# Altium footprint library USB1100-XX-X_REVC.PcbLib: 1 footprints
Each footprint in its own frame and in the unit in brackets; x right, y up, seen from the top. Pads: shape width x height; smd on the part's side, far side on the other; paste and mask are expansions set on the pad; w line width, h text height; cw(c..) or ccw(c..) is an arc to the next point about the centre after c.
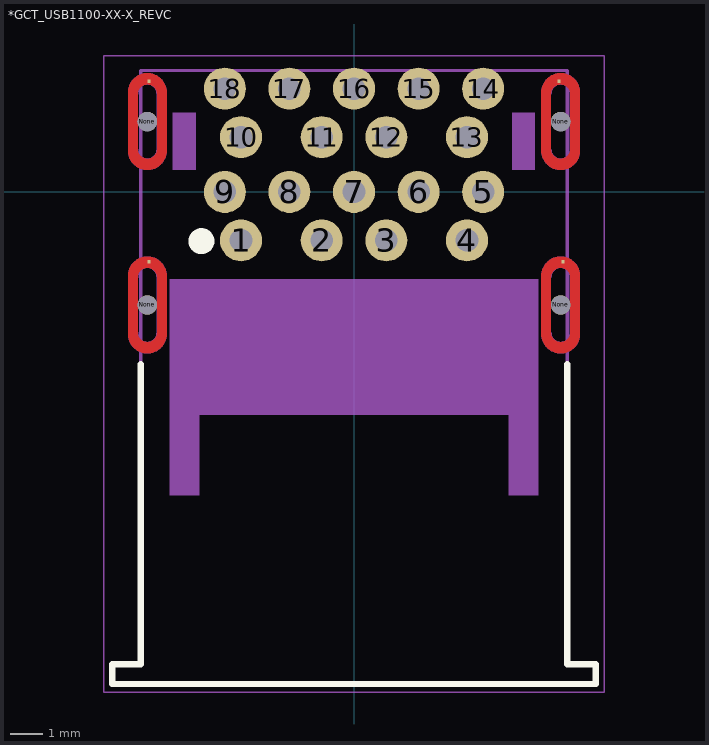
[diagram p0: the footprint, top view; thin cyan lines are the x and y axes]

## *GCT_USB1100-XX-X_REVC [mm]
pads (26):
  round 1.3 hole 0.7: 1(-3.5,-1.5) 2(-1,-1.5) 3(1,-1.5) 4(3.5,-1.5) 5(4,0) 6(2,0) 7(0,0) 8(-2,0) 9(-4,0) 10(-3.5,1.7) 11(-1,1.7) 12(1,1.7) 13(3.5,1.7) 14(4,3.2) 15(2,3.2) 16(0,3.2) 17(-2,3.2) 18(-4,3.2)
  rect 0.1x0.1 smd: 19(6.477,-2.159) 20(6.35,3.429) 21(-6.35,-2.159) 22(-6.35,3.429)
  round 0.6 hole 0.6 unplated: None(-6.4,-3.5) None(-6.4,2.18) None(6.4,-3.5) None(6.4,2.18)
Top Layer:
  region: -6.1,-3.5 -6.1,-4.35 -6.1,-4.358 -6.101,-4.374 -6.102,-4.389 -6.105,-4.405 -6.108,-4.42 -6.112,-4.435 -6.117,-4.45 -6.123,-4.465 -6.129,-4.479 -6.136,-4.493 -6.144,-4.507 -6.153,-4.52 -6.162,-4.533 -6.172,-4.545 -6.182,-4.557 -6.193,-4.568 -6.205,-4.578 -6.217,-4.588 -6.23,-4.597 -6.243,-4.606 -6.257,-4.614 -6.271,-4.621 -6.285,-4.627 -6.3,-4.633 -6.315,-4.638 -6.33,-4.642 -6.345,-4.645 -6.361,-4.648 -6.376,-4.649 -6.392,-4.65 -6.4,-4.65 -6.408,-4.65 -6.424,-4.649 -6.439,-4.648 -6.455,-4.645 -6.47,-4.642 -6.485,-4.638 -6.5,-4.633 -6.515,-4.627 -6.529,-4.621 -6.543,-4.614 -6.557,-4.606 -6.57,-4.597 -6.583,-4.588 -6.595,-4.578 -6.607,-4.568 -6.618,-4.557 -6.628,-4.545 -6.638,-4.533 -6.647,-4.52 -6.656,-4.507 -6.664,-4.493 -6.671,-4.479 -6.677,-4.465 -6.683,-4.45 -6.688,-4.435 -6.692,-4.42 -6.695,-4.405 -6.698,-4.389 -6.699,-4.374 -6.7,-4.358 -6.7,-4.35 -6.7,-3.5 -7,-3.5 -7,-4.3 -7,-4.4 -7,-4.416 -6.998,-4.447 -6.995,-4.478 -6.99,-4.509 -6.984,-4.54 -6.975,-4.57 -6.966,-4.6 -6.955,-4.63 -6.942,-4.658 -6.927,-4.686 -6.912,-4.714 -6.895,-4.74 -6.876,-4.765 -6.856,-4.79 -6.835,-4.813 -6.813,-4.835 -6.79,-4.856 -6.765,-4.876 -6.74,-4.895 -6.714,-4.912 -6.686,-4.927 -6.658,-4.942 -6.63,-4.955 -6.6,-4.966 -6.57,-4.975 -6.54,-4.984 -6.509,-4.99 -6.478,-4.995 -6.447,-4.998 -6.416,-5 -6.4,-5 -6.384,-5 -6.353,-4.998 -6.322,-4.995 -6.291,-4.99 -6.26,-4.984 -6.23,-4.975 -6.2,-4.966 -6.17,-4.955 -6.142,-4.942 -6.114,-4.927 -6.086,-4.912 -6.06,-4.895 -6.035,-4.876 -6.01,-4.856 -5.987,-4.835 -5.965,-4.813 -5.944,-4.79 -5.924,-4.765 -5.905,-4.74 -5.888,-4.714 -5.873,-4.686 -5.858,-4.658 -5.845,-4.63 -5.834,-4.6 -5.825,-4.57 -5.816,-4.54 -5.81,-4.509 -5.805,-4.478 -5.802,-4.447 -5.8,-4.416 -5.8,-4.4 -5.8,-3.5
  region: -6.7,-3.5 -6.7,-2.65 -6.7,-2.642 -6.699,-2.626 -6.698,-2.611 -6.695,-2.595 -6.692,-2.58 -6.688,-2.565 -6.683,-2.55 -6.677,-2.535 -6.671,-2.521 -6.664,-2.507 -6.656,-2.493 -6.647,-2.48 -6.638,-2.467 -6.628,-2.455 -6.618,-2.443 -6.607,-2.432 -6.595,-2.422 -6.583,-2.412 -6.57,-2.403 -6.557,-2.394 -6.543,-2.386 -6.529,-2.379 -6.515,-2.373 -6.5,-2.367 -6.485,-2.362 -6.47,-2.358 -6.455,-2.355 -6.439,-2.352 -6.424,-2.351 -6.408,-2.35 -6.4,-2.35 -6.392,-2.35 -6.376,-2.351 -6.361,-2.352 -6.345,-2.355 -6.33,-2.358 -6.315,-2.362 -6.3,-2.367 -6.285,-2.373 -6.271,-2.379 -6.257,-2.386 -6.243,-2.394 -6.23,-2.403 -6.217,-2.412 -6.205,-2.422 -6.193,-2.432 -6.182,-2.443 -6.172,-2.455 -6.162,-2.467 -6.153,-2.48 -6.144,-2.493 -6.136,-2.507 -6.129,-2.521 -6.123,-2.535 -6.117,-2.55 -6.112,-2.565 -6.108,-2.58 -6.105,-2.595 -6.102,-2.611 -6.101,-2.626 -6.1,-2.642 -6.1,-2.65 -6.1,-3.5 -5.8,-3.5 -5.8,-2.7 -5.8,-2.6 -5.8,-2.584 -5.802,-2.553 -5.805,-2.522 -5.81,-2.491 -5.816,-2.46 -5.825,-2.43 -5.834,-2.4 -5.845,-2.37 -5.858,-2.342 -5.873,-2.314 -5.888,-2.286 -5.905,-2.26 -5.924,-2.235 -5.944,-2.21 -5.965,-2.187 -5.987,-2.165 -6.01,-2.144 -6.035,-2.124 -6.06,-2.105 -6.086,-2.088 -6.114,-2.073 -6.142,-2.058 -6.17,-2.045 -6.2,-2.034 -6.23,-2.025 -6.26,-2.016 -6.291,-2.01 -6.322,-2.005 -6.353,-2.002 -6.384,-2 -6.4,-2 -6.416,-2 -6.447,-2.002 -6.478,-2.005 -6.509,-2.01 -6.54,-2.016 -6.57,-2.025 -6.6,-2.034 -6.63,-2.045 -6.658,-2.058 -6.686,-2.073 -6.714,-2.088 -6.74,-2.105 -6.765,-2.124 -6.79,-2.144 -6.813,-2.165 -6.835,-2.187 -6.856,-2.21 -6.876,-2.235 -6.895,-2.26 -6.912,-2.286 -6.927,-2.314 -6.942,-2.342 -6.955,-2.37 -6.966,-2.4 -6.975,-2.43 -6.984,-2.46 -6.99,-2.491 -6.995,-2.522 -6.998,-2.553 -7,-2.584 -7,-2.6 -7,-3.5
  region: 6.7,-3.5 6.7,-4.35 6.7,-4.358 6.699,-4.374 6.698,-4.389 6.695,-4.405 6.692,-4.42 6.688,-4.435 6.683,-4.45 6.677,-4.465 6.671,-4.479 6.664,-4.493 6.656,-4.507 6.647,-4.52 6.638,-4.533 6.628,-4.545 6.618,-4.557 6.607,-4.568 6.595,-4.578 6.583,-4.588 6.57,-4.597 6.557,-4.606 6.543,-4.614 6.529,-4.621 6.515,-4.627 6.5,-4.633 6.485,-4.638 6.47,-4.642 6.455,-4.645 6.439,-4.648 6.424,-4.649 6.408,-4.65 6.4,-4.65 6.392,-4.65 6.376,-4.649 6.361,-4.648 6.345,-4.645 6.33,-4.642 6.315,-4.638 6.3,-4.633 6.285,-4.627 6.271,-4.621 6.257,-4.614 6.243,-4.606 6.23,-4.597 6.217,-4.588 6.205,-4.578 6.193,-4.568 6.182,-4.557 6.172,-4.545 6.162,-4.533 6.153,-4.52 6.144,-4.507 6.136,-4.493 6.129,-4.479 6.123,-4.465 6.117,-4.45 6.112,-4.435 6.108,-4.42 6.105,-4.405 6.102,-4.389 6.101,-4.374 6.1,-4.358 6.1,-4.35 6.1,-3.5 5.8,-3.5 5.8,-4.3 5.8,-4.4 5.8,-4.416 5.802,-4.447 5.805,-4.478 5.81,-4.509 5.816,-4.54 5.825,-4.57 5.834,-4.6 5.845,-4.63 5.858,-4.658 5.873,-4.686 5.888,-4.714 5.905,-4.74 5.924,-4.765 5.944,-4.79 5.965,-4.813 5.987,-4.835 6.01,-4.856 6.035,-4.876 6.06,-4.895 6.086,-4.912 6.114,-4.927 6.142,-4.942 6.17,-4.955 6.2,-4.966 6.23,-4.975 6.26,-4.984 6.291,-4.99 6.322,-4.995 6.353,-4.998 6.384,-5 6.4,-5 6.416,-5 6.447,-4.998 6.478,-4.995 6.509,-4.99 6.54,-4.984 6.57,-4.975 6.6,-4.966 6.63,-4.955 6.658,-4.942 6.686,-4.927 6.714,-4.912 6.74,-4.895 6.765,-4.876 6.79,-4.856 6.813,-4.835 6.835,-4.813 6.856,-4.79 6.876,-4.765 6.895,-4.74 6.912,-4.714 6.927,-4.686 6.942,-4.658 6.955,-4.63 6.966,-4.6 6.975,-4.57 6.984,-4.54 6.99,-4.509 6.995,-4.478 6.998,-4.447 7,-4.416 7,-4.4 7,-3.5
  region: 6.1,-3.5 6.1,-2.65 6.1,-2.642 6.101,-2.626 6.102,-2.611 6.105,-2.595 6.108,-2.58 6.112,-2.565 6.117,-2.55 6.123,-2.535 6.129,-2.521 6.136,-2.507 6.144,-2.493 6.153,-2.48 6.162,-2.467 6.172,-2.455 6.182,-2.443 6.193,-2.432 6.205,-2.422 6.217,-2.412 6.23,-2.403 6.243,-2.394 6.257,-2.386 6.271,-2.379 6.285,-2.373 6.3,-2.367 6.315,-2.362 6.33,-2.358 6.345,-2.355 6.361,-2.352 6.376,-2.351 6.392,-2.35 6.4,-2.35 6.408,-2.35 6.424,-2.351 6.439,-2.352 6.455,-2.355 6.47,-2.358 6.485,-2.362 6.5,-2.367 6.515,-2.373 6.529,-2.379 6.543,-2.386 6.557,-2.394 6.57,-2.403 6.583,-2.412 6.595,-2.422 6.607,-2.432 6.618,-2.443 6.628,-2.455 6.638,-2.467 6.647,-2.48 6.656,-2.493 6.664,-2.507 6.671,-2.521 6.677,-2.535 6.683,-2.55 6.688,-2.565 6.692,-2.58 6.695,-2.595 6.698,-2.611 6.699,-2.626 6.7,-2.642 6.7,-2.65 6.7,-3.5 7,-3.5 7,-2.7 7,-2.6 7,-2.584 6.998,-2.553 6.995,-2.522 6.99,-2.491 6.984,-2.46 6.975,-2.43 6.966,-2.4 6.955,-2.37 6.942,-2.342 6.927,-2.314 6.912,-2.286 6.895,-2.26 6.876,-2.235 6.856,-2.21 6.835,-2.187 6.813,-2.165 6.79,-2.144 6.765,-2.124 6.74,-2.105 6.714,-2.088 6.686,-2.073 6.658,-2.058 6.63,-2.045 6.6,-2.034 6.57,-2.025 6.54,-2.016 6.509,-2.01 6.478,-2.005 6.447,-2.002 6.416,-2 6.4,-2 6.384,-2 6.353,-2.002 6.322,-2.005 6.291,-2.01 6.26,-2.016 6.23,-2.025 6.2,-2.034 6.17,-2.045 6.142,-2.058 6.114,-2.073 6.086,-2.088 6.06,-2.105 6.035,-2.124 6.01,-2.144 5.987,-2.165 5.965,-2.187 5.944,-2.21 5.924,-2.235 5.905,-2.26 5.888,-2.286 5.873,-2.314 5.858,-2.342 5.845,-2.37 5.834,-2.4 5.825,-2.43 5.816,-2.46 5.81,-2.491 5.805,-2.522 5.802,-2.553 5.8,-2.584 5.8,-2.6 5.8,-3.5
  region: 6.7,2.18 6.7,1.33 6.7,1.322 6.699,1.306 6.698,1.291 6.695,1.275 6.692,1.26 6.688,1.245 6.683,1.23 6.677,1.215 6.671,1.201 6.664,1.187 6.656,1.173 6.647,1.16 6.638,1.147 6.628,1.135 6.618,1.123 6.607,1.112 6.595,1.102 6.583,1.092 6.57,1.083 6.557,1.074 6.543,1.066 6.529,1.059 6.515,1.053 6.5,1.047 6.485,1.042 6.47,1.038 6.455,1.035 6.439,1.032 6.424,1.031 6.408,1.03 6.4,1.03 6.392,1.03 6.376,1.031 6.361,1.032 6.345,1.035 6.33,1.038 6.315,1.042 6.3,1.047 6.285,1.053 6.271,1.059 6.257,1.066 6.243,1.074 6.23,1.083 6.217,1.092 6.205,1.102 6.193,1.112 6.182,1.123 6.172,1.135 6.162,1.147 6.153,1.16 6.144,1.173 6.136,1.187 6.129,1.201 6.123,1.215 6.117,1.23 6.112,1.245 6.108,1.26 6.105,1.275 6.102,1.291 6.101,1.306 6.1,1.322 6.1,1.33 6.1,2.18 5.8,2.18 5.8,1.38 5.8,1.28 5.8,1.264 5.802,1.233 5.805,1.202 5.81,1.171 5.816,1.14 5.825,1.11 5.834,1.08 5.845,1.05 5.858,1.022 5.873,0.994 5.888,0.966 5.905,0.94 5.924,0.915 5.944,0.89 5.965,0.867 5.987,0.845 6.01,0.824 6.035,0.804 6.06,0.785 6.086,0.768 6.114,0.753 6.142,0.738 6.17,0.725 6.2,0.714 6.23,0.705 6.26,0.696 6.291,0.69 6.322,0.685 6.353,0.682 6.384,0.68 6.4,0.68 6.416,0.68 6.447,0.682 6.478,0.685 6.509,0.69 6.54,0.696 6.57,0.705 6.6,0.714 6.63,0.725 6.658,0.738 6.686,0.753 6.714,0.768 6.74,0.785 6.765,0.804 6.79,0.824 6.813,0.845 6.835,0.867 6.856,0.89 6.876,0.915 6.895,0.94 6.912,0.966 6.927,0.994 6.942,1.022 6.955,1.05 6.966,1.08 6.975,1.11 6.984,1.14 6.99,1.171 6.995,1.202 6.998,1.233 7,1.264 7,1.28 7,2.18
  region: 6.1,2.18 6.1,3.03 6.1,3.038 6.101,3.054 6.102,3.069 6.105,3.085 6.108,3.1 6.112,3.115 6.117,3.13 6.123,3.145 6.129,3.159 6.136,3.173 6.144,3.187 6.153,3.2 6.162,3.213 6.172,3.225 6.182,3.237 6.193,3.248 6.205,3.258 6.217,3.268 6.23,3.277 6.243,3.286 6.257,3.294 6.271,3.301 6.285,3.307 6.3,3.313 6.315,3.318 6.33,3.322 6.345,3.325 6.361,3.328 6.376,3.329 6.392,3.33 6.4,3.33 6.408,3.33 6.424,3.329 6.439,3.328 6.455,3.325 6.47,3.322 6.485,3.318 6.5,3.313 6.515,3.307 6.529,3.301 6.543,3.294 6.557,3.286 6.57,3.277 6.583,3.268 6.595,3.258 6.607,3.248 6.618,3.237 6.628,3.225 6.638,3.213 6.647,3.2 6.656,3.187 6.664,3.173 6.671,3.159 6.677,3.145 6.683,3.13 6.688,3.115 6.692,3.1 6.695,3.085 6.698,3.069 6.699,3.054 6.7,3.038 6.7,3.03 6.7,2.18 7,2.18 7,2.98 7,3.08 7,3.096 6.998,3.127 6.995,3.158 6.99,3.189 6.984,3.22 6.975,3.25 6.966,3.28 6.955,3.31 6.942,3.338 6.927,3.366 6.912,3.394 6.895,3.42 6.876,3.445 6.856,3.47 6.835,3.493 6.813,3.515 6.79,3.536 6.765,3.556 6.74,3.575 6.714,3.592 6.686,3.607 6.658,3.622 6.63,3.635 6.6,3.646 6.57,3.655 6.54,3.664 6.509,3.67 6.478,3.675 6.447,3.678 6.416,3.68 6.4,3.68 6.384,3.68 6.353,3.678 6.322,3.675 6.291,3.67 6.26,3.664 6.23,3.655 6.2,3.646 6.17,3.635 6.142,3.622 6.114,3.607 6.086,3.592 6.06,3.575 6.035,3.556 6.01,3.536 5.987,3.515 5.965,3.493 5.944,3.47 5.924,3.445 5.905,3.42 5.888,3.394 5.873,3.366 5.858,3.338 5.845,3.31 5.834,3.28 5.825,3.25 5.816,3.22 5.81,3.189 5.805,3.158 5.802,3.127 5.8,3.096 5.8,3.08 5.8,2.18
  region: -6.1,2.18 -6.1,1.33 -6.1,1.322 -6.101,1.306 -6.102,1.291 -6.105,1.275 -6.108,1.26 -6.112,1.245 -6.117,1.23 -6.123,1.215 -6.129,1.201 -6.136,1.187 -6.144,1.173 -6.153,1.16 -6.162,1.147 -6.172,1.135 -6.182,1.123 -6.193,1.112 -6.205,1.102 -6.217,1.092 -6.23,1.083 -6.243,1.074 -6.257,1.066 -6.271,1.059 -6.285,1.053 -6.3,1.047 -6.315,1.042 -6.33,1.038 -6.345,1.035 -6.361,1.032 -6.376,1.031 -6.392,1.03 -6.4,1.03 -6.408,1.03 -6.424,1.031 -6.439,1.032 -6.455,1.035 -6.47,1.038 -6.485,1.042 -6.5,1.047 -6.515,1.053 -6.529,1.059 -6.543,1.066 -6.557,1.074 -6.57,1.083 -6.583,1.092 -6.595,1.102 -6.607,1.112 -6.618,1.123 -6.628,1.135 -6.638,1.147 -6.647,1.16 -6.656,1.173 -6.664,1.187 -6.671,1.201 -6.677,1.215 -6.683,1.23 -6.688,1.245 -6.692,1.26 -6.695,1.275 -6.698,1.291 -6.699,1.306 -6.7,1.322 -6.7,1.33 -6.7,2.18 -7,2.18 -7,1.38 -7,1.28 -7,1.264 -6.998,1.233 -6.995,1.202 -6.99,1.171 -6.984,1.14 -6.975,1.11 -6.966,1.08 -6.955,1.05 -6.942,1.022 -6.927,0.994 -6.912,0.966 -6.895,0.94 -6.876,0.915 -6.856,0.89 -6.835,0.867 -6.813,0.845 -6.79,0.824 -6.765,0.804 -6.74,0.785 -6.714,0.768 -6.686,0.753 -6.658,0.738 -6.63,0.725 -6.6,0.714 -6.57,0.705 -6.54,0.696 -6.509,0.69 -6.478,0.685 -6.447,0.682 -6.416,0.68 -6.4,0.68 -6.384,0.68 -6.353,0.682 -6.322,0.685 -6.291,0.69 -6.26,0.696 -6.23,0.705 -6.2,0.714 -6.17,0.725 -6.142,0.738 -6.114,0.753 -6.086,0.768 -6.06,0.785 -6.035,0.804 -6.01,0.824 -5.987,0.845 -5.965,0.867 -5.944,0.89 -5.924,0.915 -5.905,0.94 -5.888,0.966 -5.873,0.994 -5.858,1.022 -5.845,1.05 -5.834,1.08 -5.825,1.11 -5.816,1.14 -5.81,1.171 -5.805,1.202 -5.802,1.233 -5.8,1.264 -5.8,1.28 -5.8,2.18
  region: -6.7,2.18 -6.7,3.03 -6.7,3.038 -6.699,3.054 -6.698,3.069 -6.695,3.085 -6.692,3.1 -6.688,3.115 -6.683,3.13 -6.677,3.145 -6.671,3.159 -6.664,3.173 -6.656,3.187 -6.647,3.2 -6.638,3.213 -6.628,3.225 -6.618,3.237 -6.607,3.248 -6.595,3.258 -6.583,3.268 -6.57,3.277 -6.557,3.286 -6.543,3.294 -6.529,3.301 -6.515,3.307 -6.5,3.313 -6.485,3.318 -6.47,3.322 -6.455,3.325 -6.439,3.328 -6.424,3.329 -6.408,3.33 -6.4,3.33 -6.392,3.33 -6.376,3.329 -6.361,3.328 -6.345,3.325 -6.33,3.322 -6.315,3.318 -6.3,3.313 -6.285,3.307 -6.271,3.301 -6.257,3.294 -6.243,3.286 -6.23,3.277 -6.217,3.268 -6.205,3.258 -6.193,3.248 -6.182,3.237 -6.172,3.225 -6.162,3.213 -6.153,3.2 -6.144,3.187 -6.136,3.173 -6.129,3.159 -6.123,3.145 -6.117,3.13 -6.112,3.115 -6.108,3.1 -6.105,3.085 -6.102,3.069 -6.101,3.054 -6.1,3.038 -6.1,3.03 -6.1,2.18 -5.8,2.18 -5.8,2.98 -5.8,3.08 -5.8,3.096 -5.802,3.127 -5.805,3.158 -5.81,3.189 -5.816,3.22 -5.825,3.25 -5.834,3.28 -5.845,3.31 -5.858,3.338 -5.873,3.366 -5.888,3.394 -5.905,3.42 -5.924,3.445 -5.944,3.47 -5.965,3.493 -5.987,3.515 -6.01,3.536 -6.035,3.556 -6.06,3.575 -6.086,3.592 -6.114,3.607 -6.142,3.622 -6.17,3.635 -6.2,3.646 -6.23,3.655 -6.26,3.664 -6.291,3.67 -6.322,3.675 -6.353,3.678 -6.384,3.68 -6.4,3.68 -6.416,3.68 -6.447,3.678 -6.478,3.675 -6.509,3.67 -6.54,3.664 -6.57,3.655 -6.6,3.646 -6.63,3.635 -6.658,3.622 -6.686,3.607 -6.714,3.592 -6.74,3.575 -6.765,3.556 -6.79,3.536 -6.813,3.515 -6.835,3.493 -6.856,3.47 -6.876,3.445 -6.895,3.42 -6.912,3.394 -6.927,3.366 -6.942,3.338 -6.955,3.31 -6.966,3.28 -6.975,3.25 -6.984,3.22 -6.99,3.189 -6.995,3.158 -6.998,3.127 -7,3.096 -7,3.08 -7,2.18
Bottom Layer:
  region: -6.1,-3.5 -6.1,-4.35 -6.1,-4.358 -6.101,-4.374 -6.102,-4.389 -6.105,-4.405 -6.108,-4.42 -6.112,-4.435 -6.117,-4.45 -6.123,-4.465 -6.129,-4.479 -6.136,-4.493 -6.144,-4.507 -6.153,-4.52 -6.162,-4.533 -6.172,-4.545 -6.182,-4.557 -6.193,-4.568 -6.205,-4.578 -6.217,-4.588 -6.23,-4.597 -6.243,-4.606 -6.257,-4.614 -6.271,-4.621 -6.285,-4.627 -6.3,-4.633 -6.315,-4.638 -6.33,-4.642 -6.345,-4.645 -6.361,-4.648 -6.376,-4.649 -6.392,-4.65 -6.4,-4.65 -6.408,-4.65 -6.424,-4.649 -6.439,-4.648 -6.455,-4.645 -6.47,-4.642 -6.485,-4.638 -6.5,-4.633 -6.515,-4.627 -6.529,-4.621 -6.543,-4.614 -6.557,-4.606 -6.57,-4.597 -6.583,-4.588 -6.595,-4.578 -6.607,-4.568 -6.618,-4.557 -6.628,-4.545 -6.638,-4.533 -6.647,-4.52 -6.656,-4.507 -6.664,-4.493 -6.671,-4.479 -6.677,-4.465 -6.683,-4.45 -6.688,-4.435 -6.692,-4.42 -6.695,-4.405 -6.698,-4.389 -6.699,-4.374 -6.7,-4.358 -6.7,-4.35 -6.7,-3.5 -7,-3.5 -7,-4.3 -7,-4.4 -7,-4.416 -6.998,-4.447 -6.995,-4.478 -6.99,-4.509 -6.984,-4.54 -6.975,-4.57 -6.966,-4.6 -6.955,-4.63 -6.942,-4.658 -6.927,-4.686 -6.912,-4.714 -6.895,-4.74 -6.876,-4.765 -6.856,-4.79 -6.835,-4.813 -6.813,-4.835 -6.79,-4.856 -6.765,-4.876 -6.74,-4.895 -6.714,-4.912 -6.686,-4.927 -6.658,-4.942 -6.63,-4.955 -6.6,-4.966 -6.57,-4.975 -6.54,-4.984 -6.509,-4.99 -6.478,-4.995 -6.447,-4.998 -6.416,-5 -6.4,-5 -6.384,-5 -6.353,-4.998 -6.322,-4.995 -6.291,-4.99 -6.26,-4.984 -6.23,-4.975 -6.2,-4.966 -6.17,-4.955 -6.142,-4.942 -6.114,-4.927 -6.086,-4.912 -6.06,-4.895 -6.035,-4.876 -6.01,-4.856 -5.987,-4.835 -5.965,-4.813 -5.944,-4.79 -5.924,-4.765 -5.905,-4.74 -5.888,-4.714 -5.873,-4.686 -5.858,-4.658 -5.845,-4.63 -5.834,-4.6 -5.825,-4.57 -5.816,-4.54 -5.81,-4.509 -5.805,-4.478 -5.802,-4.447 -5.8,-4.416 -5.8,-4.4 -5.8,-3.5
  region: -6.7,-3.5 -6.7,-2.65 -6.7,-2.642 -6.699,-2.626 -6.698,-2.611 -6.695,-2.595 -6.692,-2.58 -6.688,-2.565 -6.683,-2.55 -6.677,-2.535 -6.671,-2.521 -6.664,-2.507 -6.656,-2.493 -6.647,-2.48 -6.638,-2.467 -6.628,-2.455 -6.618,-2.443 -6.607,-2.432 -6.595,-2.422 -6.583,-2.412 -6.57,-2.403 -6.557,-2.394 -6.543,-2.386 -6.529,-2.379 -6.515,-2.373 -6.5,-2.367 -6.485,-2.362 -6.47,-2.358 -6.455,-2.355 -6.439,-2.352 -6.424,-2.351 -6.408,-2.35 -6.4,-2.35 -6.392,-2.35 -6.376,-2.351 -6.361,-2.352 -6.345,-2.355 -6.33,-2.358 -6.315,-2.362 -6.3,-2.367 -6.285,-2.373 -6.271,-2.379 -6.257,-2.386 -6.243,-2.394 -6.23,-2.403 -6.217,-2.412 -6.205,-2.422 -6.193,-2.432 -6.182,-2.443 -6.172,-2.455 -6.162,-2.467 -6.153,-2.48 -6.144,-2.493 -6.136,-2.507 -6.129,-2.521 -6.123,-2.535 -6.117,-2.55 -6.112,-2.565 -6.108,-2.58 -6.105,-2.595 -6.102,-2.611 -6.101,-2.626 -6.1,-2.642 -6.1,-2.65 -6.1,-3.5 -5.8,-3.5 -5.8,-2.7 -5.8,-2.6 -5.8,-2.584 -5.802,-2.553 -5.805,-2.522 -5.81,-2.491 -5.816,-2.46 -5.825,-2.43 -5.834,-2.4 -5.845,-2.37 -5.858,-2.342 -5.873,-2.314 -5.888,-2.286 -5.905,-2.26 -5.924,-2.235 -5.944,-2.21 -5.965,-2.187 -5.987,-2.165 -6.01,-2.144 -6.035,-2.124 -6.06,-2.105 -6.086,-2.088 -6.114,-2.073 -6.142,-2.058 -6.17,-2.045 -6.2,-2.034 -6.23,-2.025 -6.26,-2.016 -6.291,-2.01 -6.322,-2.005 -6.353,-2.002 -6.384,-2 -6.4,-2 -6.416,-2 -6.447,-2.002 -6.478,-2.005 -6.509,-2.01 -6.54,-2.016 -6.57,-2.025 -6.6,-2.034 -6.63,-2.045 -6.658,-2.058 -6.686,-2.073 -6.714,-2.088 -6.74,-2.105 -6.765,-2.124 -6.79,-2.144 -6.813,-2.165 -6.835,-2.187 -6.856,-2.21 -6.876,-2.235 -6.895,-2.26 -6.912,-2.286 -6.927,-2.314 -6.942,-2.342 -6.955,-2.37 -6.966,-2.4 -6.975,-2.43 -6.984,-2.46 -6.99,-2.491 -6.995,-2.522 -6.998,-2.553 -7,-2.584 -7,-2.6 -7,-3.5
  region: 6.7,-3.5 6.7,-4.35 6.7,-4.358 6.699,-4.374 6.698,-4.389 6.695,-4.405 6.692,-4.42 6.688,-4.435 6.683,-4.45 6.677,-4.465 6.671,-4.479 6.664,-4.493 6.656,-4.507 6.647,-4.52 6.638,-4.533 6.628,-4.545 6.618,-4.557 6.607,-4.568 6.595,-4.578 6.583,-4.588 6.57,-4.597 6.557,-4.606 6.543,-4.614 6.529,-4.621 6.515,-4.627 6.5,-4.633 6.485,-4.638 6.47,-4.642 6.455,-4.645 6.439,-4.648 6.424,-4.649 6.408,-4.65 6.4,-4.65 6.392,-4.65 6.376,-4.649 6.361,-4.648 6.345,-4.645 6.33,-4.642 6.315,-4.638 6.3,-4.633 6.285,-4.627 6.271,-4.621 6.257,-4.614 6.243,-4.606 6.23,-4.597 6.217,-4.588 6.205,-4.578 6.193,-4.568 6.182,-4.557 6.172,-4.545 6.162,-4.533 6.153,-4.52 6.144,-4.507 6.136,-4.493 6.129,-4.479 6.123,-4.465 6.117,-4.45 6.112,-4.435 6.108,-4.42 6.105,-4.405 6.102,-4.389 6.101,-4.374 6.1,-4.358 6.1,-4.35 6.1,-3.5 5.8,-3.5 5.8,-4.3 5.8,-4.4 5.8,-4.416 5.802,-4.447 5.805,-4.478 5.81,-4.509 5.816,-4.54 5.825,-4.57 5.834,-4.6 5.845,-4.63 5.858,-4.658 5.873,-4.686 5.888,-4.714 5.905,-4.74 5.924,-4.765 5.944,-4.79 5.965,-4.813 5.987,-4.835 6.01,-4.856 6.035,-4.876 6.06,-4.895 6.086,-4.912 6.114,-4.927 6.142,-4.942 6.17,-4.955 6.2,-4.966 6.23,-4.975 6.26,-4.984 6.291,-4.99 6.322,-4.995 6.353,-4.998 6.384,-5 6.4,-5 6.416,-5 6.447,-4.998 6.478,-4.995 6.509,-4.99 6.54,-4.984 6.57,-4.975 6.6,-4.966 6.63,-4.955 6.658,-4.942 6.686,-4.927 6.714,-4.912 6.74,-4.895 6.765,-4.876 6.79,-4.856 6.813,-4.835 6.835,-4.813 6.856,-4.79 6.876,-4.765 6.895,-4.74 6.912,-4.714 6.927,-4.686 6.942,-4.658 6.955,-4.63 6.966,-4.6 6.975,-4.57 6.984,-4.54 6.99,-4.509 6.995,-4.478 6.998,-4.447 7,-4.416 7,-4.4 7,-3.5
  region: 6.1,-3.5 6.1,-2.65 6.1,-2.642 6.101,-2.626 6.102,-2.611 6.105,-2.595 6.108,-2.58 6.112,-2.565 6.117,-2.55 6.123,-2.535 6.129,-2.521 6.136,-2.507 6.144,-2.493 6.153,-2.48 6.162,-2.467 6.172,-2.455 6.182,-2.443 6.193,-2.432 6.205,-2.422 6.217,-2.412 6.23,-2.403 6.243,-2.394 6.257,-2.386 6.271,-2.379 6.285,-2.373 6.3,-2.367 6.315,-2.362 6.33,-2.358 6.345,-2.355 6.361,-2.352 6.376,-2.351 6.392,-2.35 6.4,-2.35 6.408,-2.35 6.424,-2.351 6.439,-2.352 6.455,-2.355 6.47,-2.358 6.485,-2.362 6.5,-2.367 6.515,-2.373 6.529,-2.379 6.543,-2.386 6.557,-2.394 6.57,-2.403 6.583,-2.412 6.595,-2.422 6.607,-2.432 6.618,-2.443 6.628,-2.455 6.638,-2.467 6.647,-2.48 6.656,-2.493 6.664,-2.507 6.671,-2.521 6.677,-2.535 6.683,-2.55 6.688,-2.565 6.692,-2.58 6.695,-2.595 6.698,-2.611 6.699,-2.626 6.7,-2.642 6.7,-2.65 6.7,-3.5 7,-3.5 7,-2.7 7,-2.6 7,-2.584 6.998,-2.553 6.995,-2.522 6.99,-2.491 6.984,-2.46 6.975,-2.43 6.966,-2.4 6.955,-2.37 6.942,-2.342 6.927,-2.314 6.912,-2.286 6.895,-2.26 6.876,-2.235 6.856,-2.21 6.835,-2.187 6.813,-2.165 6.79,-2.144 6.765,-2.124 6.74,-2.105 6.714,-2.088 6.686,-2.073 6.658,-2.058 6.63,-2.045 6.6,-2.034 6.57,-2.025 6.54,-2.016 6.509,-2.01 6.478,-2.005 6.447,-2.002 6.416,-2 6.4,-2 6.384,-2 6.353,-2.002 6.322,-2.005 6.291,-2.01 6.26,-2.016 6.23,-2.025 6.2,-2.034 6.17,-2.045 6.142,-2.058 6.114,-2.073 6.086,-2.088 6.06,-2.105 6.035,-2.124 6.01,-2.144 5.987,-2.165 5.965,-2.187 5.944,-2.21 5.924,-2.235 5.905,-2.26 5.888,-2.286 5.873,-2.314 5.858,-2.342 5.845,-2.37 5.834,-2.4 5.825,-2.43 5.816,-2.46 5.81,-2.491 5.805,-2.522 5.802,-2.553 5.8,-2.584 5.8,-2.6 5.8,-3.5
  region: 6.7,2.18 6.7,1.33 6.7,1.322 6.699,1.306 6.698,1.291 6.695,1.275 6.692,1.26 6.688,1.245 6.683,1.23 6.677,1.215 6.671,1.201 6.664,1.187 6.656,1.173 6.647,1.16 6.638,1.147 6.628,1.135 6.618,1.123 6.607,1.112 6.595,1.102 6.583,1.092 6.57,1.083 6.557,1.074 6.543,1.066 6.529,1.059 6.515,1.053 6.5,1.047 6.485,1.042 6.47,1.038 6.455,1.035 6.439,1.032 6.424,1.031 6.408,1.03 6.4,1.03 6.392,1.03 6.376,1.031 6.361,1.032 6.345,1.035 6.33,1.038 6.315,1.042 6.3,1.047 6.285,1.053 6.271,1.059 6.257,1.066 6.243,1.074 6.23,1.083 6.217,1.092 6.205,1.102 6.193,1.112 6.182,1.123 6.172,1.135 6.162,1.147 6.153,1.16 6.144,1.173 6.136,1.187 6.129,1.201 6.123,1.215 6.117,1.23 6.112,1.245 6.108,1.26 6.105,1.275 6.102,1.291 6.101,1.306 6.1,1.322 6.1,1.33 6.1,2.18 5.8,2.18 5.8,1.38 5.8,1.28 5.8,1.264 5.802,1.233 5.805,1.202 5.81,1.171 5.816,1.14 5.825,1.11 5.834,1.08 5.845,1.05 5.858,1.022 5.873,0.994 5.888,0.966 5.905,0.94 5.924,0.915 5.944,0.89 5.965,0.867 5.987,0.845 6.01,0.824 6.035,0.804 6.06,0.785 6.086,0.768 6.114,0.753 6.142,0.738 6.17,0.725 6.2,0.714 6.23,0.705 6.26,0.696 6.291,0.69 6.322,0.685 6.353,0.682 6.384,0.68 6.4,0.68 6.416,0.68 6.447,0.682 6.478,0.685 6.509,0.69 6.54,0.696 6.57,0.705 6.6,0.714 6.63,0.725 6.658,0.738 6.686,0.753 6.714,0.768 6.74,0.785 6.765,0.804 6.79,0.824 6.813,0.845 6.835,0.867 6.856,0.89 6.876,0.915 6.895,0.94 6.912,0.966 6.927,0.994 6.942,1.022 6.955,1.05 6.966,1.08 6.975,1.11 6.984,1.14 6.99,1.171 6.995,1.202 6.998,1.233 7,1.264 7,1.28 7,2.18
  region: 6.1,2.18 6.1,3.03 6.1,3.038 6.101,3.054 6.102,3.069 6.105,3.085 6.108,3.1 6.112,3.115 6.117,3.13 6.123,3.145 6.129,3.159 6.136,3.173 6.144,3.187 6.153,3.2 6.162,3.213 6.172,3.225 6.182,3.237 6.193,3.248 6.205,3.258 6.217,3.268 6.23,3.277 6.243,3.286 6.257,3.294 6.271,3.301 6.285,3.307 6.3,3.313 6.315,3.318 6.33,3.322 6.345,3.325 6.361,3.328 6.376,3.329 6.392,3.33 6.4,3.33 6.408,3.33 6.424,3.329 6.439,3.328 6.455,3.325 6.47,3.322 6.485,3.318 6.5,3.313 6.515,3.307 6.529,3.301 6.543,3.294 6.557,3.286 6.57,3.277 6.583,3.268 6.595,3.258 6.607,3.248 6.618,3.237 6.628,3.225 6.638,3.213 6.647,3.2 6.656,3.187 6.664,3.173 6.671,3.159 6.677,3.145 6.683,3.13 6.688,3.115 6.692,3.1 6.695,3.085 6.698,3.069 6.699,3.054 6.7,3.038 6.7,3.03 6.7,2.18 7,2.18 7,2.98 7,3.08 7,3.096 6.998,3.127 6.995,3.158 6.99,3.189 6.984,3.22 6.975,3.25 6.966,3.28 6.955,3.31 6.942,3.338 6.927,3.366 6.912,3.394 6.895,3.42 6.876,3.445 6.856,3.47 6.835,3.493 6.813,3.515 6.79,3.536 6.765,3.556 6.74,3.575 6.714,3.592 6.686,3.607 6.658,3.622 6.63,3.635 6.6,3.646 6.57,3.655 6.54,3.664 6.509,3.67 6.478,3.675 6.447,3.678 6.416,3.68 6.4,3.68 6.384,3.68 6.353,3.678 6.322,3.675 6.291,3.67 6.26,3.664 6.23,3.655 6.2,3.646 6.17,3.635 6.142,3.622 6.114,3.607 6.086,3.592 6.06,3.575 6.035,3.556 6.01,3.536 5.987,3.515 5.965,3.493 5.944,3.47 5.924,3.445 5.905,3.42 5.888,3.394 5.873,3.366 5.858,3.338 5.845,3.31 5.834,3.28 5.825,3.25 5.816,3.22 5.81,3.189 5.805,3.158 5.802,3.127 5.8,3.096 5.8,3.08 5.8,2.18
  region: -6.1,2.18 -6.1,1.33 -6.1,1.322 -6.101,1.306 -6.102,1.291 -6.105,1.275 -6.108,1.26 -6.112,1.245 -6.117,1.23 -6.123,1.215 -6.129,1.201 -6.136,1.187 -6.144,1.173 -6.153,1.16 -6.162,1.147 -6.172,1.135 -6.182,1.123 -6.193,1.112 -6.205,1.102 -6.217,1.092 -6.23,1.083 -6.243,1.074 -6.257,1.066 -6.271,1.059 -6.285,1.053 -6.3,1.047 -6.315,1.042 -6.33,1.038 -6.345,1.035 -6.361,1.032 -6.376,1.031 -6.392,1.03 -6.4,1.03 -6.408,1.03 -6.424,1.031 -6.439,1.032 -6.455,1.035 -6.47,1.038 -6.485,1.042 -6.5,1.047 -6.515,1.053 -6.529,1.059 -6.543,1.066 -6.557,1.074 -6.57,1.083 -6.583,1.092 -6.595,1.102 -6.607,1.112 -6.618,1.123 -6.628,1.135 -6.638,1.147 -6.647,1.16 -6.656,1.173 -6.664,1.187 -6.671,1.201 -6.677,1.215 -6.683,1.23 -6.688,1.245 -6.692,1.26 -6.695,1.275 -6.698,1.291 -6.699,1.306 -6.7,1.322 -6.7,1.33 -6.7,2.18 -7,2.18 -7,1.38 -7,1.28 -7,1.264 -6.998,1.233 -6.995,1.202 -6.99,1.171 -6.984,1.14 -6.975,1.11 -6.966,1.08 -6.955,1.05 -6.942,1.022 -6.927,0.994 -6.912,0.966 -6.895,0.94 -6.876,0.915 -6.856,0.89 -6.835,0.867 -6.813,0.845 -6.79,0.824 -6.765,0.804 -6.74,0.785 -6.714,0.768 -6.686,0.753 -6.658,0.738 -6.63,0.725 -6.6,0.714 -6.57,0.705 -6.54,0.696 -6.509,0.69 -6.478,0.685 -6.447,0.682 -6.416,0.68 -6.4,0.68 -6.384,0.68 -6.353,0.682 -6.322,0.685 -6.291,0.69 -6.26,0.696 -6.23,0.705 -6.2,0.714 -6.17,0.725 -6.142,0.738 -6.114,0.753 -6.086,0.768 -6.06,0.785 -6.035,0.804 -6.01,0.824 -5.987,0.845 -5.965,0.867 -5.944,0.89 -5.924,0.915 -5.905,0.94 -5.888,0.966 -5.873,0.994 -5.858,1.022 -5.845,1.05 -5.834,1.08 -5.825,1.11 -5.816,1.14 -5.81,1.171 -5.805,1.202 -5.802,1.233 -5.8,1.264 -5.8,1.28 -5.8,2.18
  region: -6.7,2.18 -6.7,3.03 -6.7,3.038 -6.699,3.054 -6.698,3.069 -6.695,3.085 -6.692,3.1 -6.688,3.115 -6.683,3.13 -6.677,3.145 -6.671,3.159 -6.664,3.173 -6.656,3.187 -6.647,3.2 -6.638,3.213 -6.628,3.225 -6.618,3.237 -6.607,3.248 -6.595,3.258 -6.583,3.268 -6.57,3.277 -6.557,3.286 -6.543,3.294 -6.529,3.301 -6.515,3.307 -6.5,3.313 -6.485,3.318 -6.47,3.322 -6.455,3.325 -6.439,3.328 -6.424,3.329 -6.408,3.33 -6.4,3.33 -6.392,3.33 -6.376,3.329 -6.361,3.328 -6.345,3.325 -6.33,3.322 -6.315,3.318 -6.3,3.313 -6.285,3.307 -6.271,3.301 -6.257,3.294 -6.243,3.286 -6.23,3.277 -6.217,3.268 -6.205,3.258 -6.193,3.248 -6.182,3.237 -6.172,3.225 -6.162,3.213 -6.153,3.2 -6.144,3.187 -6.136,3.173 -6.129,3.159 -6.123,3.145 -6.117,3.13 -6.112,3.115 -6.108,3.1 -6.105,3.085 -6.102,3.069 -6.101,3.054 -6.1,3.038 -6.1,3.03 -6.1,2.18 -5.8,2.18 -5.8,2.98 -5.8,3.08 -5.8,3.096 -5.802,3.127 -5.805,3.158 -5.81,3.189 -5.816,3.22 -5.825,3.25 -5.834,3.28 -5.845,3.31 -5.858,3.338 -5.873,3.366 -5.888,3.394 -5.905,3.42 -5.924,3.445 -5.944,3.47 -5.965,3.493 -5.987,3.515 -6.01,3.536 -6.035,3.556 -6.06,3.575 -6.086,3.592 -6.114,3.607 -6.142,3.622 -6.17,3.635 -6.2,3.646 -6.23,3.655 -6.26,3.664 -6.291,3.67 -6.322,3.675 -6.353,3.678 -6.384,3.68 -6.4,3.68 -6.416,3.68 -6.447,3.678 -6.478,3.675 -6.509,3.67 -6.54,3.664 -6.57,3.655 -6.6,3.646 -6.63,3.635 -6.658,3.622 -6.686,3.607 -6.714,3.592 -6.74,3.575 -6.765,3.556 -6.79,3.536 -6.813,3.515 -6.835,3.493 -6.856,3.47 -6.876,3.445 -6.895,3.42 -6.912,3.394 -6.927,3.366 -6.942,3.338 -6.955,3.31 -6.966,3.28 -6.975,3.25 -6.984,3.22 -6.99,3.189 -6.995,3.158 -6.998,3.127 -7,3.096 -7,3.08 -7,2.18
Top Overlay:
  circle w0.4: c-4.724,-1.524 r0.203
  lines w0.2: -6.604,-5.334 -6.604,-14.63 -7.493,-14.63 -7.493,-15.24 7.493,-15.24 7.493,-14.63 6.604,-14.63 6.604,-5.334
Top Paste:
  drawing of 8 lines, arcs and shapes, not listed
Bottom Paste:
  drawing of 16 lines, arcs and shapes, not listed
Top Solder:
  region: -7.105,-1.88 -5.7,-1.88 -5.7,-5.083 -7.105,-5.083
  region: 5.705,-1.88 7.1,-1.88 7.1,-5.084 5.705,-5.084
  region: 5.705,3.8 7.1,3.8 7.1,0.601 5.705,0.601
  region: -7.114,3.8 -5.7,3.8 -5.7,0.601 -7.114,0.601
Bottom Solder:
  region: 5.705,-1.88 7.1,-1.88 7.1,-5.084 5.705,-5.084
  region: 5.711,3.8 7.1,3.8 7.1,0.601 5.711,0.601
  region: -7.112,-1.88 -5.7,-1.88 -5.7,-5.089 -7.112,-5.089
  region: -7.112,3.8 -5.7,3.8 -5.7,0.601 -7.112,0.601
Mechanical 1:
  lines w0: -6.7,-4.35 ccw(c-6.4,-4.35) -6.4,-4.65 ccw(c-6.4,-4.35) -6.1,-4.35 -6.1,-2.65 ccw(c-6.4,-2.65) -6.4,-2.35 ccw(c-6.4,-2.65) -6.7,-2.65 -6.7,-4.35 ; -6.7,1.33 ccw(c-6.4,1.33) -6.4,1.03 ccw(c-6.4,1.33) -6.1,1.33 -6.1,3.03 ccw(c-6.4,3.03) -6.4,3.33 ccw(c-6.4,3.03) -6.7,3.03 -6.7,1.33 ; 6.1,-4.35 ccw(c6.4,-4.35) 6.4,-4.65 ccw(c6.4,-4.35) 6.7,-4.35 6.7,-2.65 ccw(c6.4,-2.65) 6.4,-2.35 ccw(c6.4,-2.65) 6.1,-2.65 6.1,-4.35 ; 6.1,1.33 ccw(c6.4,1.33) 6.4,1.03 ccw(c6.4,1.33) 6.7,1.33 6.7,3.03 ccw(c6.4,3.03) 6.4,3.33 ccw(c6.4,3.03) 6.1,3.03 6.1,1.33
Mechanical 13:
  lines w0.1: -7.493,-15.24 7.493,-15.24 ; -7.493,-15.24 -7.493,-14.63 ; -7.493,-15.24 7.493,-15.24 ; -7.493,-15.24 -7.493,-14.63 ; -7.493,-14.63 -6.604,-14.63 ; -7.493,-14.63 -6.604,-14.63 ; -6.604,-14.63 -6.604,3.759 ; -6.604,-14.63 -6.604,3.759 ; -6.604,3.759 6.604,3.759 ; -6.604,3.759 6.604,3.759 ; 6.604,-14.63 6.604,3.759 ; 6.604,-14.63 7.493,-14.63 ; 6.604,-14.63 6.604,3.759 ; 6.604,-14.63 7.493,-14.63 ; 7.493,-15.24 7.493,-14.63 ; 7.493,-15.24 7.493,-14.63
Mechanical 15:
  region: -5.7,-2.7 5.7,-2.7 5.7,-9.4 4.8,-9.4 4.8,-6.9 -4.8,-6.9 -4.8,-9.4 -5.7,-9.4
  region: 4.907,2.45 5.6,2.45 5.6,0.681 4.907,0.681
  region: -5.606,2.45 -4.9,2.45 -4.9,0.681 -5.606,0.681
  lines w0.05: -7.747,-15.494 7.747,-15.494 7.747,4.216 -7.747,4.216 -7.747,-15.494
  lines w0.1: -0.508,0 0.508,0 ; 0,-0.508 0,0.508